# EAGLE library part DRV8220DSG (library Texas Instruments)
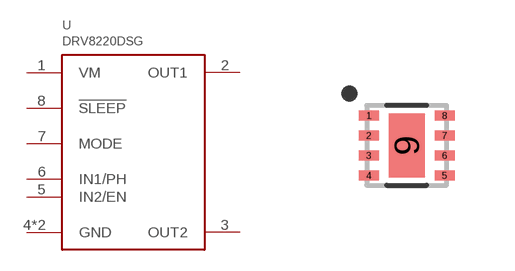
[diagram p8: symbol with the pads of WSON8; footprint WSON8]

Designator prefix U

## DRV8220DSG  [WSON8]
1  VM
2  OUT1
3  OUT2
4  GND
5  IN2/EN
6  IN1/PH
7  MODE
8  !SLEEP
9  GND

## Footprint WSON8 (pad centres in mm)
smd 0.5 x 0.25: 1 -0.95,0.75; 2 -0.95,0.25; 3 -0.95,-0.25; 4 -0.95,-0.75; 5 0.95,-0.75; 6 0.95,-0.25; 7 0.95,0.25; 8 0.95,0.75
smd 0.9 x 1.6: 9 0,0